# Altium integrated library Microchip PIC18.IntLib: 1897 symbols (part 2 of 110)
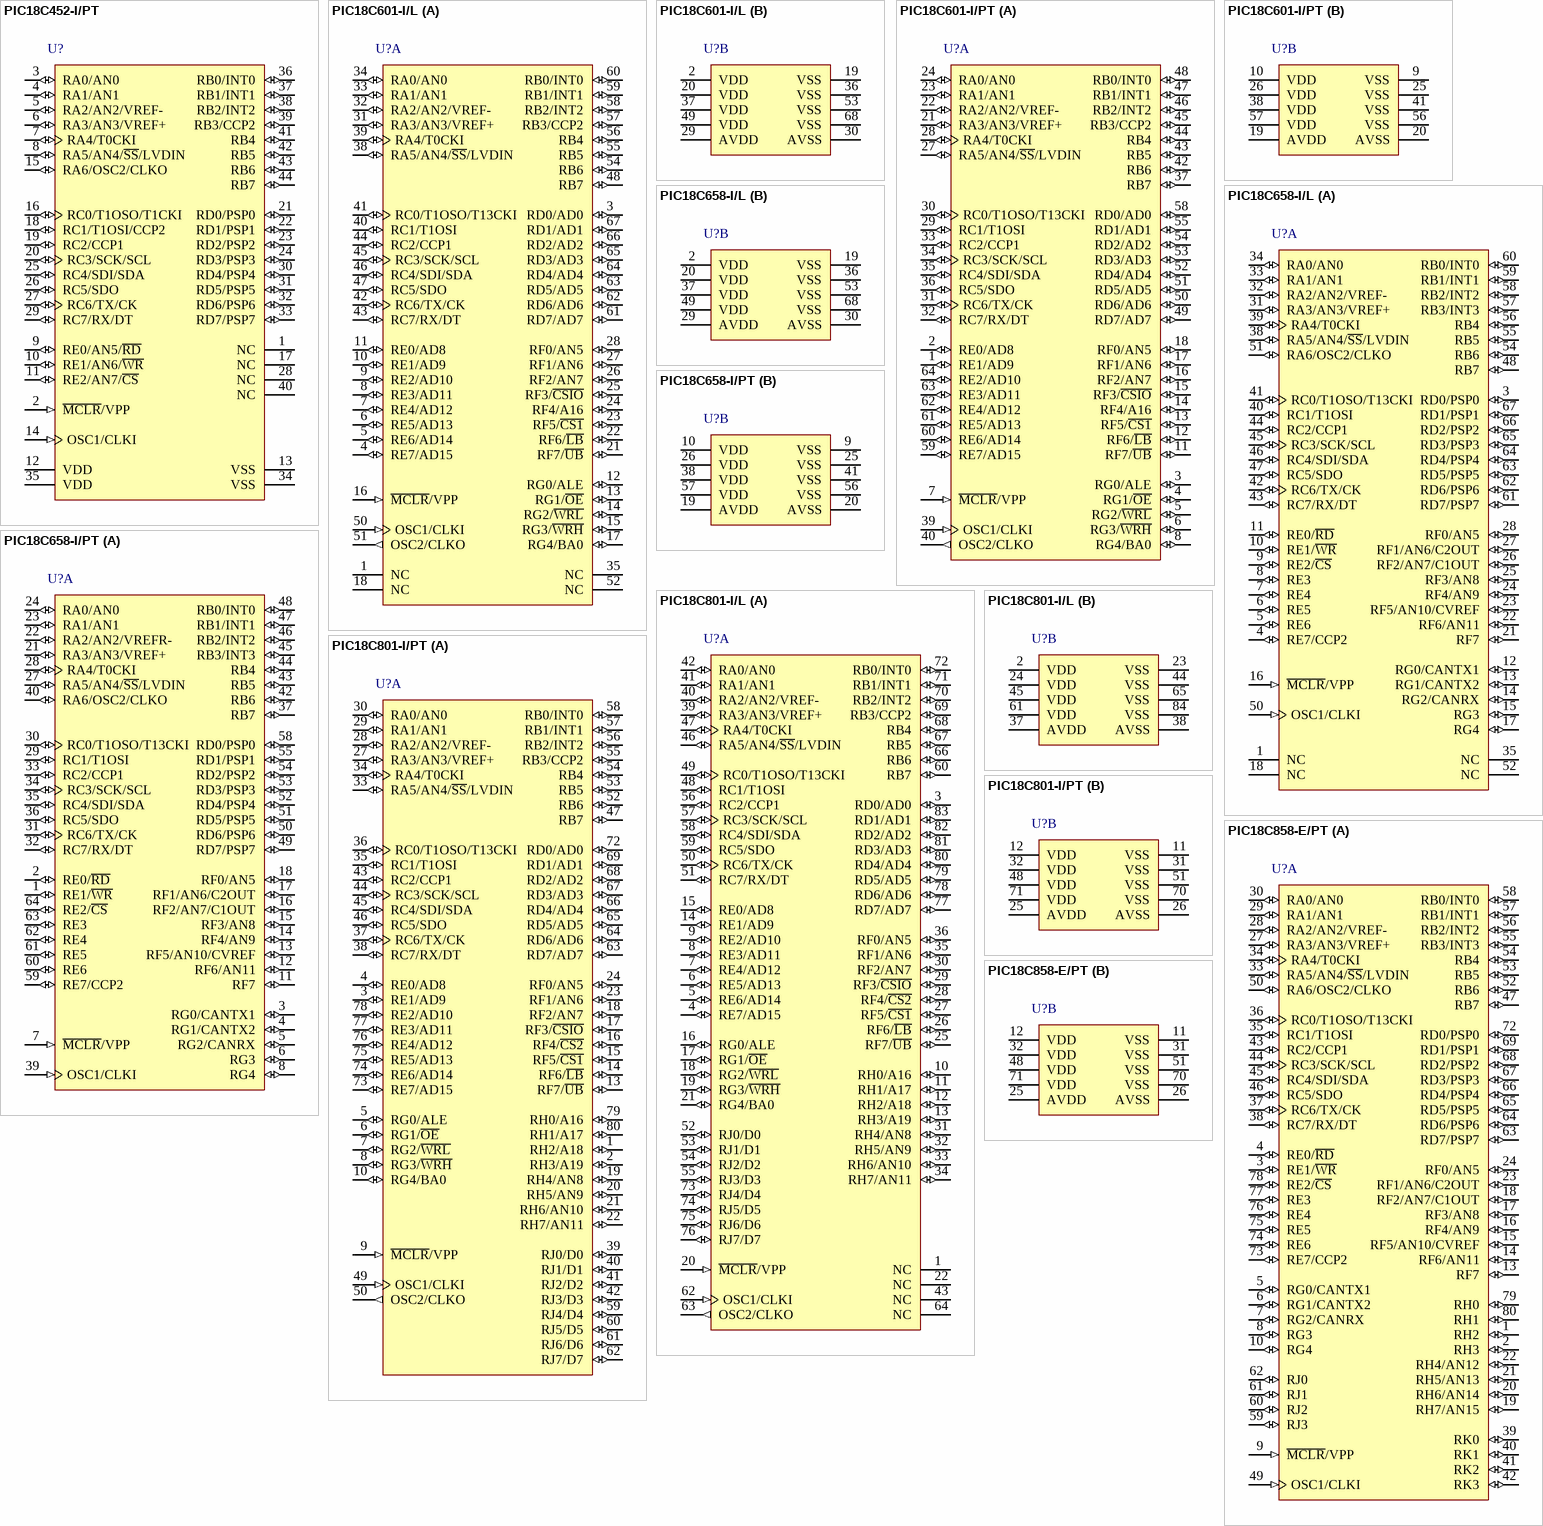
[diagram p102: symbols PIC18C452-I/PT to PIC18C858-E/PT]

## PIC18C658-I/PT
designator U?
High-Performance Microcontroller with CAN Module, 40 MHz, 52 I/O, -40 to 85 degC, 64-pin TQFP (PT64), Tray; Manufacturer: Microchip; PartNumber: PIC18C658-I/PT; # of A/D Channels: 12; Digital Communication: 1-A/E/USART, 1-MSSP(SPI/I2C); I/O Pins: 52; Max. CPU Speed MHz: 40; Memory Type: OTP; Operation Voltage Range: 4.2V - 5.5V; Program Memory KBytes: 32; RAM: 1536; Timers: 1 - 8-bit, 3 - 16-bit; DatasheetVersion: Rev. A; PackageVersion: C04-085B, 12/2012; PackageReference: TQFP-PT64; PackageDescription: 64-Lead Plastic Thin Quad FlatPack, 10 x 10 mm Body, 0.5 mm Pitch; Supplier 1: Digi-Key; Supplier Part Number 1: PIC18C658-I/PT-ND; Supplier 2: Newark; Supplier Part Number 2: 96K3924; Supplier 3: Mouser; Supplier Part Number 3: 579-PIC18C658-I/PT; Packing: TRAY; RoHS: TRUE; Mounting Technology: Surface Mount; ComponentLink1Description: Datasheet; ComponentLink1URL: http://ww1.microchip.com/downloads/en/DeviceDoc/30475a.pdf; ComponentLink2Description: Package Specification; ComponentLink2URL: http://www.microchip.com/stellent/groups/techpub_sg/documents/packagingspec/en012702.pdf; ComponentLink3Description: URL Link1; ComponentLink3URL: Product URL:http://www.microchip.com/datasheet/PIC18C658
footprint MCHP-TQFP-PT64_N (TQFP, 64-Leads, Body 10x10mm, Pitch 0.5mm, IPC Medium Density)
footprint MCHP-TQFP-PT64_L (TQFP, 64-Leads, Body 10x10mm, Pitch 0.5mm, IPC High Density)
footprint MCHP-TQFP-PT64_M (TQFP, 64-Leads, Body 10x10mm, Pitch 0.5mm, IPC Low Density)
part A pins: 1 RE1/~{WR} (io), 2 RE0/~{RD} (io), 3 RG0/CANTX1 (io), 4 RG1/CANTX2 (io), 5 RG2/CANRX (io), 6 RG3 (io) "PORTG is a bi-directional I/O port. Digital I/O.", 7 ~{MCLR}/VPP (in), 8 RG4 (io) "PORTG is a bi-directional I/O port. Digital I/O.", 11 RF7 (io) "PORTF is a bi-directional I/O port. Digital I/O.", 12 RF6/AN11 (io), 13 RF5/AN10/CVREF (io), 14 RF4/AN9 (io), 15 RF3/AN8 (io), 16 RF2/AN7/C1OUT (io), 17 RF1/AN6/C2OUT (io), 18 RF0/AN5 (io), 21 RA3/AN3/VREF+ (io), 22 RA2/AN2/VREFR- (io), 23 RA1/AN1 (io), 24 RA0/AN0 (io), 27 RA5/AN4/~{SS}/LVDIN (io), 28 RA4/T0CKI (io), 29 RC1/T1OSI (io), 30 RC0/T1OSO/T13CKI (io), 31 RC6/TX/CK (io), 32 RC7/RX/DT (io), 33 RC2/CCP1 (io), 34 RC3/SCK/SCL (io), 35 RC4/SDI/SDA (io), 36 RC5/SDO (io), 37 RB7 (io) "PORTB is a bi-directional I/O port. PORTB can be software programmed for internal weak pull-ups on all inputs. Digital I/O Interrupt-on-change pin ICSP programming data", 39 OSC1/CLKI (in), 40 RA6/OSC2/CLKO (io), 42 RB6 (io) "PORTB is a bi-directional I/O port. PORTB can be software programmed for internal weak pull-ups on all inputs. Digital I/O Interrupt-on-change pin ICSP programming clock", 43 RB5 (io) "PORTB is a bi-directional I/O port. PORTB can be software programmed for internal weak pull-ups on all inputs. Digital I/O Interrupt on change pin", 44 RB4 (io) "PORTB is a bi-directional I/O port. PORTB can be software programmed for internal weak pull-ups on all inputs. Digital I/O Interrupt on change pin", 45 RB3/INT3 (io), 46 RB2/INT2 (io), 47 RB1/INT1 (io), 48 RB0/INT0 (io), 49 RD7/PSP7 (io), 50 RD6/PSP6 (io), 51 RD5/PSP5 (io), 52 RD4/PSP4 (io), 53 RD3/PSP3 (io), 54 RD2/PSP2 (io), 55 RD1/PSP1 (io), 58 RD0/PSP0 (io), 59 RE7/CCP2 (io), 60 RE6 (io) "PORTE is a bi-directional I/O port. Digital I/O.", 61 RE5 (io) "PORTE is a bi-directional I/O port. Digital I/O.", 62 RE4 (io) "PORTE is a bi-directional I/O port. Digital I/O.", 63 RE3 (io) "PORTE is a bi-directional I/O port. Digital I/O.", 64 RE2/~{CS} (io)
part B pins: 9 VSS (power) "Ground reference for logic and I/O pins", 10 VDD (power) "Positive supply for logic and I/O pins", 19 AVDD (power) "Positive supply for analog modules", 20 AVSS (power) "Ground reference for analog modules", 25 VSS (power) "Ground reference for logic and I/O pins", 26 VDD (power) "Positive supply for logic and I/O pins", 38 VDD (power) "Positive supply for logic and I/O pins", 41 VSS (power) "Ground reference for logic and I/O pins", 56 VSS (power) "Ground reference for logic and I/O pins", 57 VDD (power) "Positive supply for logic and I/O pins"

## PIC18C801-I/L
designator U?
High-Performance ROM-Less Microcontroller with External Memory Bus, 25 MHz, 67 I/O, -40 to 85 degC, 84-pin PLCC (L84), Tube; Manufacturer: Microchip; PartNumber: PIC18C801-I/L; # of A/D Channels: 8; Digital Communication: 1-A/E/USART, 1-MSSP(SPI/I2C); Max. CPU Speed MHz: 25; Memory Type: OTP; Operation Voltage Range: 4.2V - 5.5V; RAM: 1536; Timers: 1 - 8-bit, 3 - 16-bit; DatasheetVersion: Rev. B; PackageVersion: C04-093B, 04/2013; PackageReference: PLCC-L84; PackageDescription: 84-Lead Plastic Leaded Chip Carrier, Body 29.31 x 29.31 mm, Pitch 1.27 mm; Supplier 1: Digi-Key; Supplier Part Number 1: PIC18C801-I/L-ND; Supplier 2: Mouser; Supplier Part Number 2: 579-PIC18C801-I/L; Packing: TUBE; RoHS: TRUE; Mounting Technology: Surface Mount; ComponentLink1Description: Datasheet; ComponentLink1URL: http://ww1.microchip.com/downloads/en/DeviceDoc/39541B.pdf; ComponentLink2Description: Package Specification; ComponentLink2URL: http://www.microchip.com/stellent/groups/techpub_sg/documents/packagingspec/en012702.pdf; ComponentLink3Description: URL Link1; ComponentLink3URL: Product URL:http://www.microchip.com/datasheet/PIC18C801
footprint MCHP-PLCC-L84_N (PLCC, 84-Lead, Body 29.31x29.31mm, Pitch 1.27mm, IPC Medium Density)
footprint MCHP-PLCC-L84_L (PLCC, 84-Lead, Body 29.31x29.31mm, Pitch 1.27mm, IPC High Density)
footprint MCHP-PLCC-L84_M (PLCC, 84-Lead, Body 29.31x29.31mm, Pitch 1.27mm, IPC Low Density)
part A pins: 1 NC "These pins should be left unconnected.", 3 RD0/AD0 (io), 4 RE7/AD15 (io), 5 RE6/AD14 (io), 6 RE5/AD13 (io), 7 RE4/AD12 (io), 8 RE3/AD11 (io), 9 RE2/AD10 (io), 10 RH0/A16 (io), 11 RH1/A17 (io), 12 RH2/A18 (io), 13 RH3/A19 (io), 14 RE1/AD9 (io), 15 RE0/AD8 (io), 16 RG0/ALE (io), 17 RG1/~{OE} (io), 18 RG2/~{WRL} (io), 19 RG3/~{WRH} (io), 20 ~{MCLR}/VPP (in), 21 RG4/BA0 (io), 22 NC "These pins should be left unconnected.", 25 RF7/~{UB} (io), 26 RF6/~{LB} (io), 27 RF5/~{CS1} (io), 28 RF4/~{CS2} (io), 29 RF3/~{CSIO} (io), 30 RF2/AN7 (io), 31 RH4/AN8 (io), 32 RH5/AN9 (io), 33 RH6/AN10 (io), 34 RH7/AN11 (io), 35 RF1/AN6 (io), 36 RF0/AN5 (io), 39 RA3/AN3/VREF+ (io), 40 RA2/AN2/VREF- (io), 41 RA1/AN1 (io), 42 RA0/AN0 (io), 43 NC "These pins should be left unconnected.", 46 RA5/AN4/~{SS}/LVDIN (io), 47 RA4/T0CKI (io), 48 RC1/T1OSI (io), 49 RC0/T1OSO/T13CKI (io), 50 RC6/TX/CK (io), 51 RC7/RX/DT (io), 52 RJ0/D0 (io), 53 RJ1/D1 (io), 54 RJ2/D2 (io), 55 RJ3/D3 (io), 56 RC2/CCP1 (io), 57 RC3/SCK/SCL (io), 58 RC4/SDI/SDA (io), 59 RC5/SDO (io), 60 RB7 (io) "PORTB is a bi-directional I/O port. PORTB can be software programmed for internal weak pull-ups on all inputs. Digital I/O, Interrupt-on-change pin. ICSP programming data.", 62 OSC1/CLKI (in), 63 OSC2/CLKO (out), 64 NC "These pins should be left unconnected.", 66 RB6 (io) "PORTB is a bi-directional I/O port. PORTB can be software programmed for internal weak pull-ups on all inputs. Digital I/O, Interrupt-on-change pin. ICSP programming clock.", 67 RB5 (io) "PORTB is a bi-directional I/O port. PORTB can be software programmed for internal weak pull-ups on all inputs. Digital I/O, Interrupt-on-change pin.", 68 RB4 (io) "PORTB is a bi-directional I/O port. PORTB can be software programmed for internal weak pull-ups on all inputs. Digital I/O, Interrupt-on-change pin.", 69 RB3/CCP2 (io), 70 RB2/INT2 (io), 71 RB1/INT1 (io), 72 RB0/INT0 (io), 73 RJ4/D4 (io), 74 RJ5/D5 (io), 75 RJ6/D6 (io), 76 RJ7/D7 (io), 77 RD7/AD7 (io), 78 RD6/AD6 (io), 79 RD5/AD5 (io), 80 RD4/AD4 (io), 81 RD3/AD3 (io), 82 RD2/AD2 (io), 83 RD1/AD1 (io)
part B pins: 2 VDD (power) "Positive supply for logic and I/O pins.", 23 VSS (power) "Ground reference for logic and I/O pins.", 24 VDD (power) "Positive supply for logic and I/O pins.", 37 AVDD (power) "Positive supply for analog modules.", 38 AVSS (power) "Ground reference for analog modules", 44 VSS (power) "Ground reference for logic and I/O pins.", 45 VDD (power) "Positive supply for logic and I/O pins.", 61 VDD (power) "Positive supply for logic and I/O pins.", 65 VSS (power) "Ground reference for logic and I/O pins.", 84 VSS (power) "Ground reference for logic and I/O pins."

## PIC18C801-I/PT
designator U?
High-Performance ROM-Less Microcontroller with External Memory Bus, 25 MHz, 67 I/O, -40 to 85 degC, 80-pin TQFP (PT80), Tray; Manufacturer: Microchip; PartNumber: PIC18C801-I/PT; # of A/D Channels: 8; Digital Communication: 1-A/E/USART, 1-MSSP(SPI/I2C); Max. CPU Speed MHz: 25; Memory Type: OTP; Operation Voltage Range: 4.2V - 5.5V; RAM: 1536; Timers: 1 - 8-bit, 3 - 16-bit; DatasheetVersion: Rev. B; PackageVersion: C04-092B, 12/2012; PackageReference: TQFP-PT80; PackageDescription: 80-Lead Plastic Thin Quad FlatPack, 12 x 12 mm Body, 0.5 mm Pitch; Supplier 1: Digi-Key; Supplier Part Number 1: PIC18C801-I/PT-ND; Supplier 2: Newark; Supplier Part Number 2: 89C2875; Supplier 3: Mouser; Supplier Part Number 3: 579-PIC18C801-I/PT; Packing: TRAY; RoHS: TRUE; Mounting Technology: Surface Mount; ComponentLink1Description: Datasheet; ComponentLink1URL: http://ww1.microchip.com/downloads/en/DeviceDoc/39541B.pdf; ComponentLink2Description: Package Specification; ComponentLink2URL: http://www.microchip.com/stellent/groups/techpub_sg/documents/packagingspec/en012702.pdf; ComponentLink3Description: URL Link1; ComponentLink3URL: Product URL:http://www.microchip.com/datasheet/PIC18C801
footprint MCHP-TQFP-PT80_N (QFN, 80-Leads, Body 12x12mm, Pitch 0.5mm, IPC Medium Density)
footprint MCHP-TQFP-PT80_L (QFN, 80-Leads, Body 12x12mm, Pitch 0.5mm, IPC High Density)
footprint MCHP-TQFP-PT80_M (QFN, 80-Leads, Body 12x12mm, Pitch 0.5mm, IPC Low Density)
part A pins: 1 RH2/A18 (io), 2 RH3/A19 (io), 3 RE1/AD9 (io), 4 RE0/AD8 (io), 5 RG0/ALE (io), 6 RG1/~{OE} (io), 7 RG2/~{WRL} (io), 8 RG3/~{WRH} (io), 9 ~{MCLR}/VPP (in), 10 RG4/BA0 (io), 13 RF7/~{UB} (io), 14 RF6/~{LB} (io), 15 RF5/~{CS1} (io), 16 RF4/~{CS2} (io), 17 RF3/~{CSIO} (io), 18 RF2/AN7 (io), 19 RH4/AN8 (io), 20 RH5/AN9 (io), 21 RH6/AN10 (io), 22 RH7/AN11 (io), 23 RF1/AN6 (io), 24 RF0/AN5 (io), 27 RA3/AN3/VREF+ (io), 28 RA2/AN2/VREF- (io), 29 RA1/AN1 (io), 30 RA0/AN0 (io), 33 RA5/AN4/~{SS}/LVDIN (io), 34 RA4/T0CKI (io), 35 RC1/T1OSI (io), 36 RC0/T1OSO/T13CKI (io), 37 RC6/TX/CK (io), 38 RC7/RX/DT (io), 39 RJ0/D0 (io), 40 RJ1/D1 (io), 41 RJ2/D2 (io), 42 RJ3/D3 (io), 43 RC2/CCP1 (io), 44 RC3/SCK/SCL (io), 45 RC4/SDI/SDA (io), 46 RC5/SDO (io), 47 RB7 (io) "PORTB is a bi-directional I/O port. PORTB can be software programmed for internal weak pull-ups on all inputs. Digital I/O, Interrupt-on-change pin. ICSP programming data.", 49 OSC1/CLKI (in), 50 OSC2/CLKO (out), 52 RB6 (io) "PORTB is a bi-directional I/O port. PORTB can be software programmed for internal weak pull-ups on all inputs. Digital I/O, Interrupt-on-change pin. ICSP programming clock", 53 RB5 (io) "PORTB is a bi-directional I/O port. PORTB can be software programmed for internal weak pull-ups on all inputs. Digital I/O, Interrupt-on-change pin.", 54 RB4 (io) "PORTB is a bi-directional I/O port. PORTB can be software programmed for internal weak pull-ups on all inputs. Digital I/O, Interrupt-on-change pin.", 55 RB3/CCP2 (io), 56 RB2/INT2 (io), 57 RB1/INT1 (io), 58 RB0/INT0 (io), 59 RJ4/D4 (io), 60 RJ5/D5 (io), 61 RJ6/D6 (io), 62 RJ7/D7 (io), 63 RD7/AD7 (io), 64 RD6/AD6 (io), 65 RD5/AD5 (io), 66 RD4/AD4 (io), 67 RD3/AD3 (io), 68 RD2/AD2 (io), 69 RD1/AD1 (io), 72 RD0/AD0 (io), 73 RE7/AD15 (io), 74 RE6/AD14 (io), 75 RE5/AD13 (io), 76 RE4/AD12 (io), 77 RE3/AD11 (io), 78 RE2/AD10 (io), 79 RH0/A16 (io), 80 RH1/A17 (io)
part B pins: 11 VSS (power) "Ground reference for logic and I/O pins.", 12 VDD (power) "Positive supply for logic and I/O pins.", 25 AVDD (power) "Positive supply for analog modules.", 26 AVSS (power) "Ground reference for analog modules.", 31 VSS (power) "Ground reference for logic and I/O pins.", 32 VDD (power) "Positive supply for logic and I/O pins.", 48 VDD (power) "Positive supply for logic and I/O pins.", 51 VSS (power) "Ground reference for logic and I/O pins.", 70 VSS (power) "Ground reference for logic and I/O pins.", 71 VDD (power) "Positive supply for logic and I/O pins."

## PIC18C858-E/PT
designator U?
High-Performance Microcontroller with CAN Module, 40 MHz, 68 I/O, -40 to 125 degC, 80-pin TQFP (PT80), Tray; Manufacturer: Microchip; PartNumber: PIC18C858-E/PT; # of A/D Channels: 16; Digital Communication: 1-A/E/USART, 1-MSSP(SPI/I2C); I/O Pins: 68; Max. CPU Speed MHz: 40; Memory Type: OTP; Operation Voltage Range: 4.2V - 5.5V; Program Memory KBytes: 32; RAM: 1536; Timers: 1 - 8-bit, 3 - 16-bit; DatasheetVersion: Rev. A; PackageVersion: C04-092B, 12/2012; PackageReference: TQFP-PT80; PackageDescription: 80-Lead Plastic Thin Quad FlatPack, 12 x 12 mm Body, 0.5 mm Pitch; Supplier 1: Digi-Key; Supplier Part Number 1: PIC18C858-E/PT-ND; Supplier 2: Mouser; Supplier Part Number 2: 579-PIC18C858-E/PT; Packing: TRAY; Program Memory KWords: 16; RoHS: TRUE; Mounting Technology: Surface Mount; ComponentLink1Description: Datasheet; ComponentLink1URL: http://ww1.microchip.com/downloads/en/DeviceDoc/30475a.pdf; ComponentLink2Description: Package Specification; ComponentLink2URL: http://www.microchip.com/stellent/groups/techpub_sg/documents/packagingspec/en012702.pdf; ComponentLink3Description: URL Link1; ComponentLink3URL: Product URL:http://www.microchip.com/datasheet/PIC18C858
footprint MCHP-TQFP-PT80_N (QFN, 80-Leads, Body 12x12mm, Pitch 0.5mm, IPC Medium Density)
footprint MCHP-TQFP-PT80_L (QFN, 80-Leads, Body 12x12mm, Pitch 0.5mm, IPC High Density)
footprint MCHP-TQFP-PT80_M (QFN, 80-Leads, Body 12x12mm, Pitch 0.5mm, IPC Low Density)
part A pins: 1 RH2 (io) "PORTH is a bi-directional I/O port. Digital I/O.", 2 RH3 (io) "PORTH is a bi-directional I/O port. Digital I/O.", 3 RE1/~{WR} (io), 4 RE0/~{RD} (io), 5 RG0/CANTX1 (io), 6 RG1/CANTX2 (io), 7 RG2/CANRX (io), 8 RG3 (io) "PORTG is a bi-directional I/O port. Digital I/O.", 9 ~{MCLR}/VPP (in), 10 RG4 (io) "PORTG is a bi-directional I/O port. Digital I/O.", 13 RF7 (io) "PORTF is a bi-directional I/O port. Digital I/O.", 14 RF6/AN11 (io), 15 RF5/AN10/CVREF (io), 16 RF4/AN9 (io), 17 RF3/AN8 (io), 18 RF2/AN7/C1OUT (io), 19 RH7/AN15 (io), 20 RH6/AN14 (io), 21 RH5/AN13 (io), 22 RH4/AN12 (io), 23 RF1/AN6/C2OUT (io), 24 RF0/AN5 (io), 27 RA3/AN3/VREF+ (io), 28 RA2/AN2/VREF- (io), 29 RA1/AN1 (io), 30 RA0/AN0 (io), 33 RA5/AN4/~{SS}/LVDIN (io), 34 RA4/T0CKI (io), 35 RC1/T1OSI (io), 36 RC0/T1OSO/T13CKI (io), 37 RC6/TX/CK (io), 38 RC7/RX/DT (io), 39 RK0 (io) "PORTK is a bi-directional I/O port. Digital I/O.", 40 RK1 (io) "PORTK is a bi-directional I/O port. Digital I/O.", 41 RK2 (io) "PORTK is a bi-directional I/O port. Digital I/O.", 42 RK3 (io) "PORTK is a bi-directional I/O port. Digital I/O.", 43 RC2/CCP1 (io), 44 RC3/SCK/SCL (io), 45 RC4/SDI/SDA (io), 46 RC5/SDO (io), 47 RB7 (io) "PORTB is a bi-directional I/O port. PORTB can be software programmed for internal weak pull-ups on all inputs. Digital I/O Interrupt-on-change pin ICSP programming data", 49 OSC1/CLKI (in), 50 RA6/OSC2/CLKO (io), 52 RB6 (io) "PORTB is a bi-directional I/O port. PORTB can be software programmed for internal weak pull-ups on all inputs. Digital I/O Interrupt-on-change pin ICSP programming clock", 53 RB5 (io) "PORTB is a bi-directional I/O port. PORTB can be software programmed for internal weak pull-ups on all inputs. Digital I/O Interrupt on change pin", 54 RB4 (io) "PORTB is a bi-directional I/O port. PORTB can be software programmed for internal weak pull-ups on all inputs. Digital I/O Interrupt on change pin", 55 RB3/INT3 (io), 56 RB2/INT2 (io), 57 RB1/INT1 (io), 58 RB0/INT0 (io), 59 RJ3 (io) "PORTJ is a bi-directional I/O port. Digital I/O.", 60 RJ2 (io) "PORTJ is a bi-directional I/O port. Digital I/O.", 61 RJ1 (io) "PORTJ is a bi-directional I/O port. Digital I/O.", 62 RJ0 (io) "PORTJ is a bi-directional I/O port. Digital I/O.", 63 RD7/PSP7 (io), 64 RD6/PSP6 (io), 65 RD5/PSP5 (io), 66 RD4/PSP4 (io), 67 RD3/PSP3 (io), 68 RD2/PSP2 (io), 69 RD1/PSP1 (io), 72 RD0/PSP0 (io), 73 RE7/CCP2 (io), 74 RE6 (io) "PORTE is a bi-directional I/O port. Digital I/O.", 75 RE5 (io) "PORTE is a bi-directional I/O port. Digital I/O.", 76 RE4 (io) "PORTE is a bi-directional I/O port. Digital I/O.", 77 RE3 (io) "PORTE is a bi-directional I/O port. Digital I/O.", 78 RE2/~{CS} (io), 79 RH0 (io) "PORTH is a bi-directional I/O port. Digital I/O.", 80 RH1 (io) "PORTH is a bi-directional I/O port. Digital I/O."
part B pins: 11 VSS (power) "Ground reference for logic and I/O pins", 12 VDD (power) "Positive supply for logic and I/O pins", 25 AVDD (power) "Positive supply for analog modules", 26 AVSS (power) "Ground reference for analog modules", 31 VSS (power) "Ground reference for logic and I/O pins", 32 VDD (power) "Positive supply for logic and I/O pins", 48 VDD (power) "Positive supply for logic and I/O pins", 51 VSS (power) "Ground reference for logic and I/O pins", 70 VSS (power) "Ground reference for logic and I/O pins", 71 VDD (power) "Positive supply for logic and I/O pins"

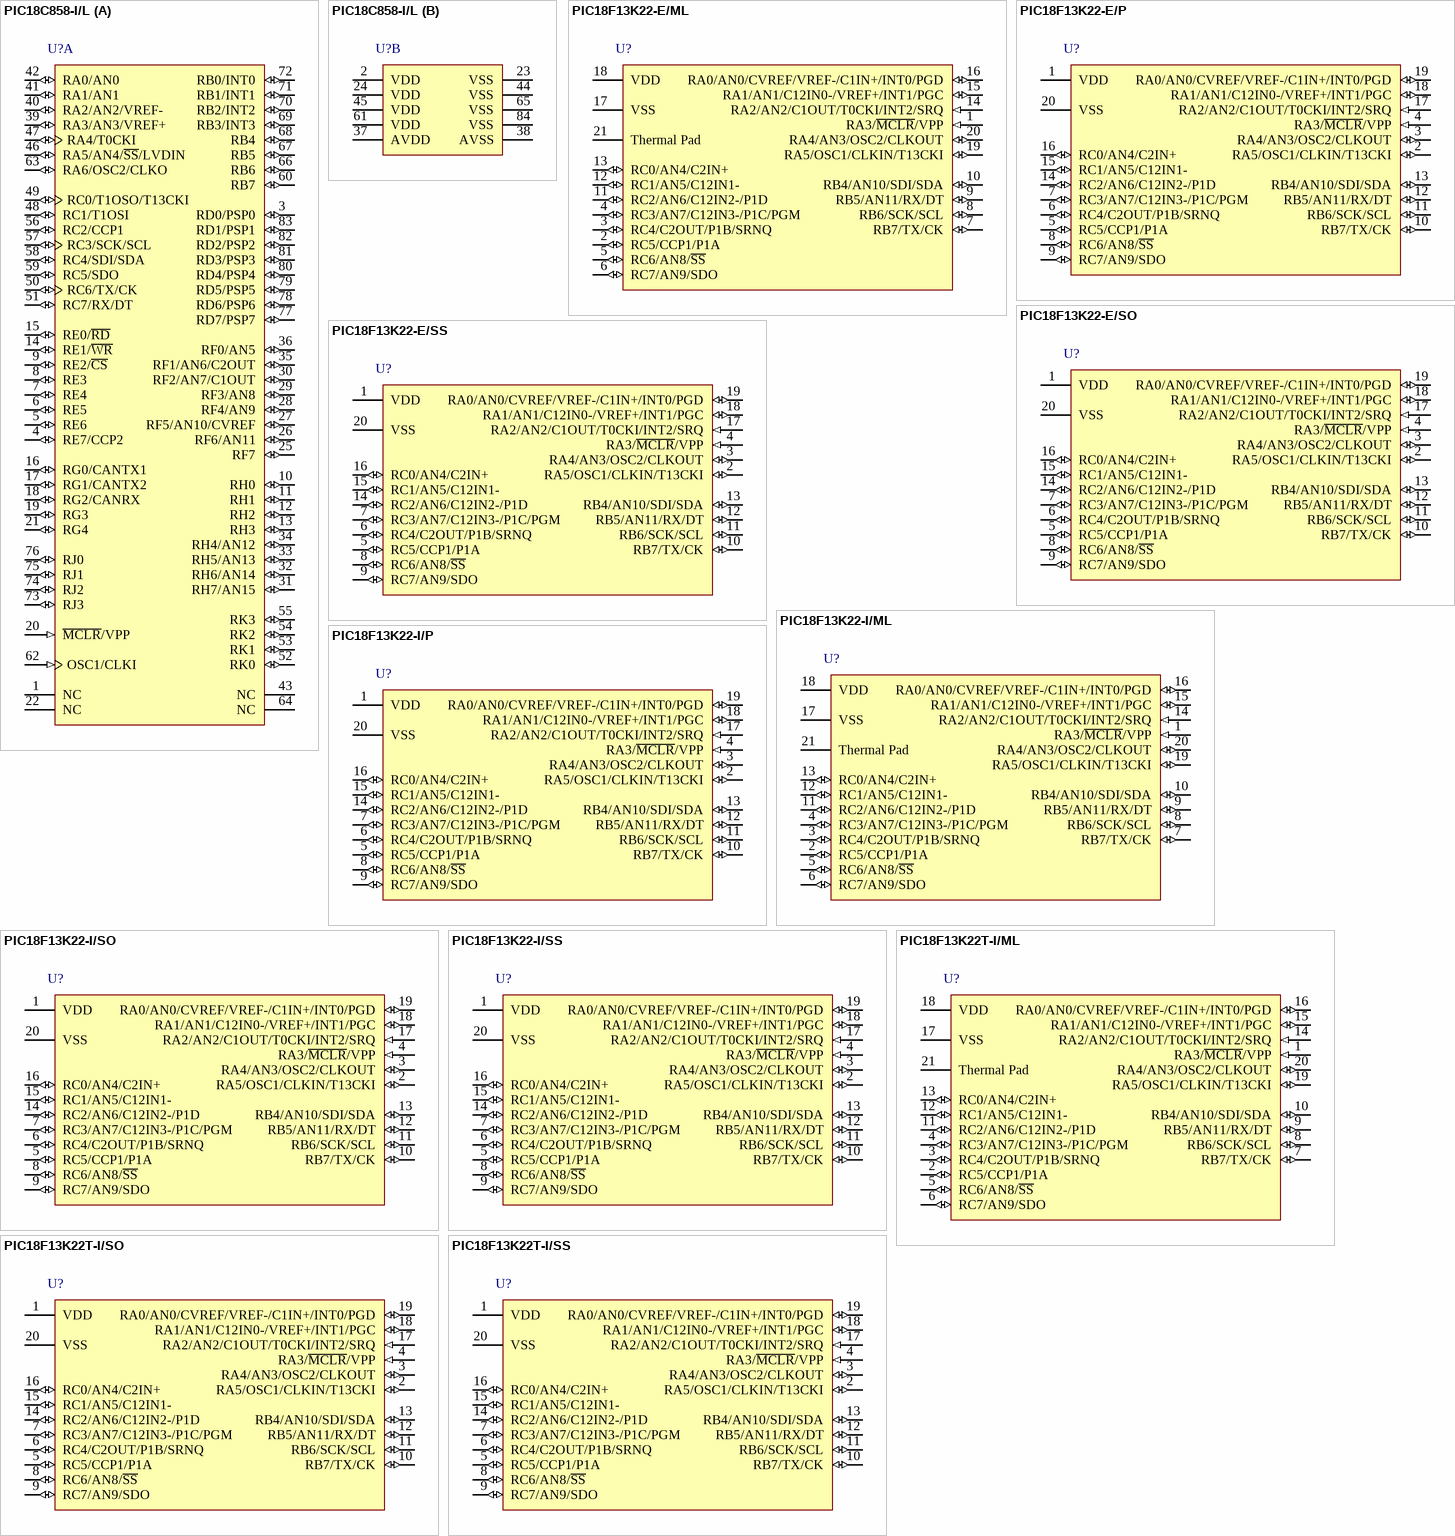
[diagram p2: symbols PIC18C858-I/L to PIC18F13K22T-I/SS]